# Altium integrated library TPS74601PDRVT.IntLib: 1 symbol
Pins are listed as number, name and electrical type; pins without a type are passive.

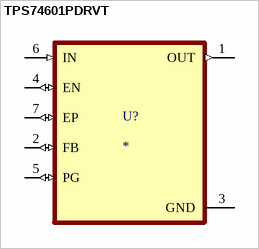
[diagram p0: symbol TPS74601PDRVT]

## TPS74601PDRVT
designator U?
1-A, low-IQ, high-accuracy, adjustable ultra-low-dropout voltage regulator with power good & enable; MF: Texas Instruments; MP: TPS74601PDRVT; SnapEDA_Link: https://www.snapeda.com/parts/TPS74601PDRVT/Texas+Instruments/view-part/?ref=snap; Package: WSON-6 Texas Instruments; Value: *; Check_prices: https://www.snapeda.com/parts/TPS74601PDRVT/Texas+Instruments/view-part/?ref=eda
footprint SON65P200X200X80-7N
pins: 1 OUT (out), 2 FB (io), 3 GND (power), 4 EN (io), 5 PG (io), 6 IN (in), 7 EP (io)